# EAGLE library part SS-90000-002 (library SS-90000-002)
Modular Connectors / Ethernet Connectors RJ45 Jack, 8P8C unshld horiz flng Source: Datasheet <https://www.belfuse.com/resources/drawings/stewartconnector/dr-STW-SS-90000-002.pdf>
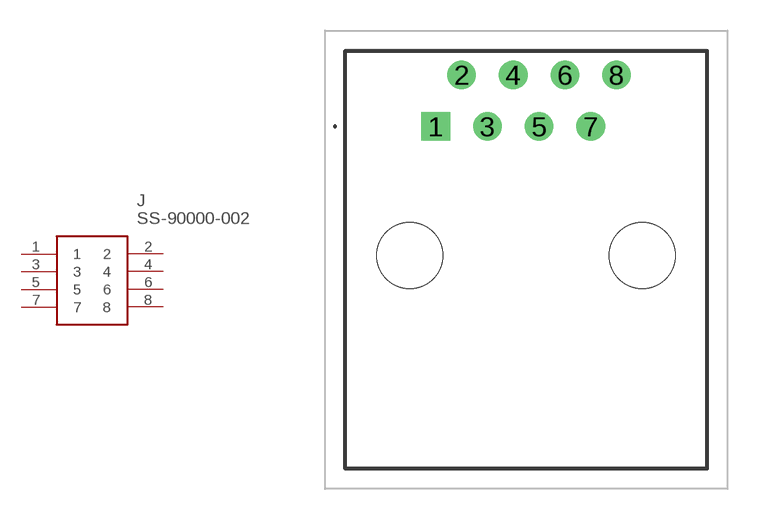
[diagram p0: symbol with the pads of SS90000002; footprint SS90000002]

Designator prefix J

## SS-90000-002 (Description: Modular Connectors / Ethernet Connectors RJ45 Jack, 8P8C unshld horiz flng; Height: 16.13mm; Manufacturer_Name: BelFuse; Manufacturer_Part_Number: SS-90000-002; Mouser_Part_Number: 530-SS-90000-002; Mouser_Price-Stock: https://www.mouser.co.uk/ProductDetail/Stewart-Connector-Bel/SS-90000-002?qs=QNEnbhJQKval8F6sm0ZXMw%3D%3D)  [SS90000002]
1  1
2  2
3  3
4  4
5  5
6  6
7  7
8  8

## Footprint SS90000002 (pad centres in mm)
SS-90000-002-2
drill 0.9 pad 1.4 square: 1 0,0
drill 0.9 pad 1.4: 2 1.27,2.54; 3 2.54,0; 4 3.81,2.54; 5 5.08,0; 6 6.35,2.54; 7 7.62,0; 8 8.89,2.54
hole 3.25 at -1.27,-6.35
hole 3.25 at 10.16,-6.35